# Altium footprint library Клеммники.PcbLib: 37 footprints (part 3 of 3)
Each footprint in its own frame and in the unit in brackets; x right, y up, seen from the top. Pads: shape width x height; smd on the part's side, far side on the other; paste and mask are expansions set on the pad; w line width, h text height; cw(c..) or ccw(c..) is an arc to the next point about the centre after c.
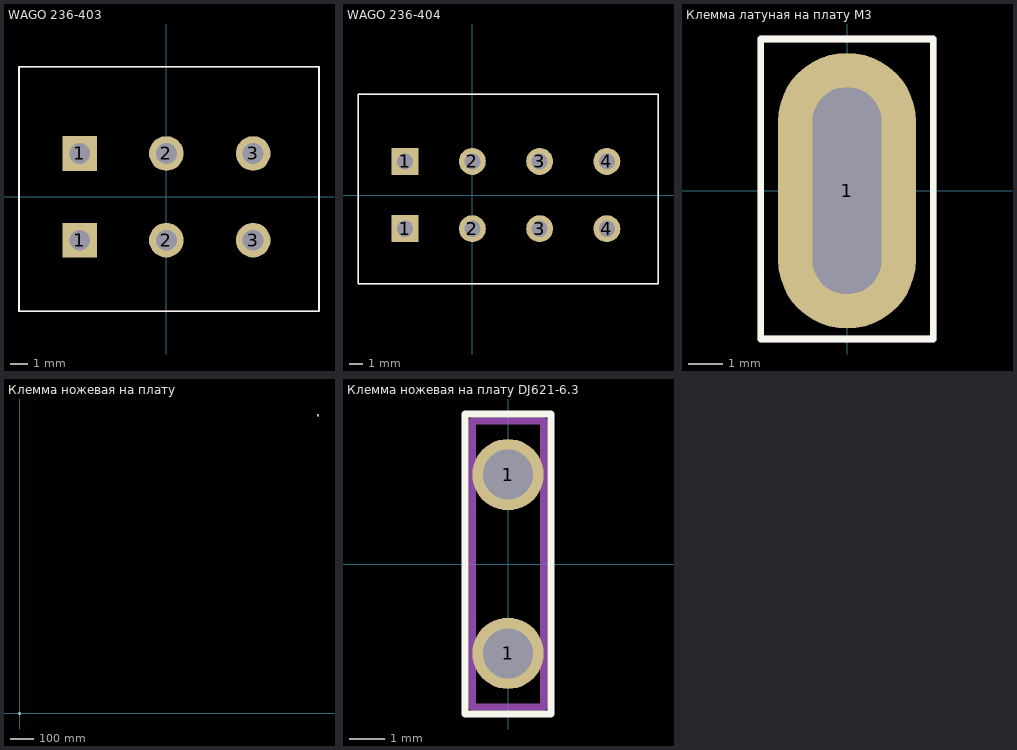
[diagram p2: the footprints below, top view; thin cyan lines are the x and y axes]

## WAGO 236-403 [mm]
pads (6):
  rect 2x2 hole 1.2: 1(-5,-2.5) 1(-5,2.5)
  round 2 hole 1.2: 2(0,-2.5) 2(0,2.5) 3(5,-2.5) 3(5,2.5)
Top Overlay:
  lines w0.1: -8.5,-6.6 -8.5,7.5 8.8,7.5 8.8,-6.6 -8.5,-6.6
TopAssy:
  lines w0.1: -8.5,-6.6 -8.5,7.5 8.8,7.5 8.8,-6.6 -8.5,-6.6
  text ".Designator" at -3.8,-0.5 h1.52
3D body "236-403.stp": height 12.71, standoff -4, extent -8.5,-6.585 8.8,7.5

## WAGO 236-404 [mm]
pads (8):
  rect 2x2 hole 1.2: 1(-5,-2.5) 1(-5,2.5)
  round 2 hole 1.2: 2(0,-2.5) 2(0,2.5) 3(5,-2.5) 3(5,2.5) 4(10,-2.5) 4(10,2.5)
Top Overlay:
  lines w0.1: -8.5,-6.6 -8.5,7.5 13.8,7.5 13.8,-6.6 -8.5,-6.6
TopAssy:
  lines w0.1: -8.5,-6.6 -8.5,7.5 13.8,7.5 13.8,-6.6 -8.5,-6.6
  text ".Designator" at -3.8,-0.5 h1.52
3D body "WAGO_236-402.STEP": height 14.6, standoff -2.4, extent 1.5,-6.6 13.8,7.4
3D body "WAGO_236-402.STEP": height 14.6, standoff -2.4, extent -8.5,-6.6 3.8,7.4

## Клемма латуная на плату М3 [mm]
pads (1):
  oval 4x8 hole 2 slot 6 at 90 deg: 1(0,0)
Top Overlay:
  lines w0.2: -2.5,-4.3 -2.5,4.4 2.5,4.4 2.5,-4.3 -2.5,-4.3
TopAssy:
  lines w0.2: -2.5,-4.3 2.5,-4.3 2.5,4.4 -2.5,4.4 -2.5,-4.3
  text ".Designator" at -1.2,-0.1 h1.52
3D body "ЛатуннаяКлеммаНаПлатуМ3.stp": height 6, standoff -2.5, extent -2.5,-2.5 2.5,2.5

## Клемма ножевая на плату [mm]
pads (4):
  round 2.6 hole 1.4: 1(0,-2.54) 1(0,2.54)
  round 2 hole 1.4: 1(1273.1,1268.5) 1(1273.1,1273.5)
Top Overlay:
  lines w0.2: -1.2,-4.2 -1.2,4.2 1.2,4.2 1.2,-4.2 -1.2,-4.2 ; 1271.9,1266.8 1274.3,1266.8 1274.3,1275.2 1271.9,1275.2 1271.9,1266.8
TopAssy:
  lines w0.2: -1,-4 1,-4 1,4 -1,4 -1,-4 ; 1272.1,1267 1272.1,1275 1274.1,1275 1274.1,1267 1272.1,1267
  text ".Designator" at -2.9,-0.4 h1.52
  text ".Designator" at 1272.5,1268.3 h1.52
3D body "1742188-1.stp": height 10.4, standoff -3.62, extent -1.543,-3.963 1.543,3.962
3D body "Клемма ножевая на плату.STEP": height 10.6, standoff -2.9, extent 1272.6,1267 1273.6,1275

## Клемма ножевая на плату DJ621-6.3 [mm]
pads (2):
  round 2 hole 1.4: 1(0,-2.5) 1(0,2.5)
Top Overlay:
  lines w0.2: -1.2,-4.2 -1.2,4.2 1.2,4.2 1.2,-4.2 -1.2,-4.2
TopAssy:
  lines w0.2: -1,-4 1,-4 1,4 -1,4 -1,-4
  text ".Designator" at -0.6,-2.7 h1.52
3D body "Клемма ножевая на плату.STEP": height 10.6, standoff -2.9, extent -0.5,-4 0.5,4